# Altium footprint library Connector.PcbLib: 20 footprints (part 1 of 2)
Each footprint in its own frame and in the unit in brackets; x right, y up, seen from the top. Pads: shape width x height; smd on the part's side, far side on the other; paste and mask are expansions set on the pad; w line width, h text height; cw(c..) or ccw(c..) is an arc to the next point about the centre after c.
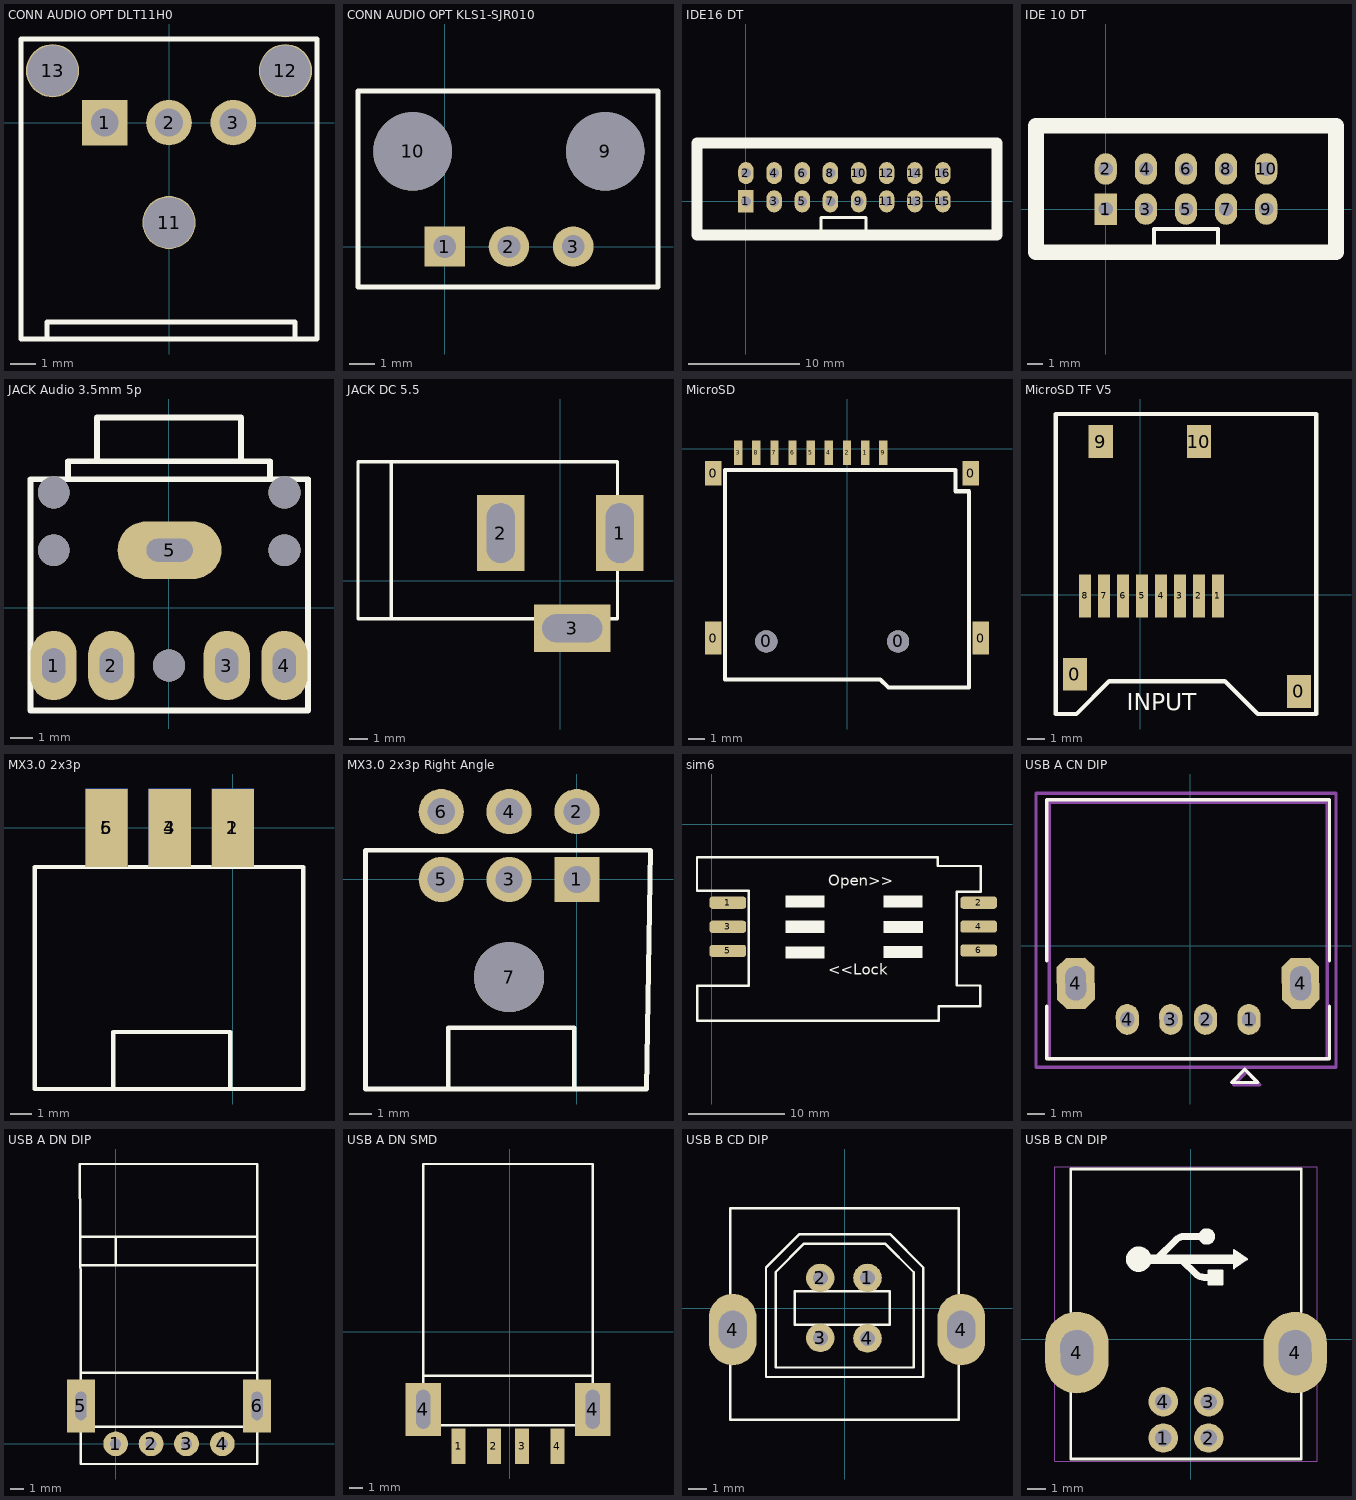
[diagram p0: the footprints below, top view; thin cyan lines are the x and y axes]

## CONN AUDIO OPT DLT11H0 [mm]
pads (6):
  rect 1.8x1.8 hole 1.1: 1(-2.54,0)
  round 1.8 hole 1.1: 2(0,0) 3(2.54,0)
  round 2.1 hole 2: 11(0,-3.95) 12(4.6,2.05) 13(-4.6,2.05)
Top Overlay:
  lines w0.203: -4.826,-8.534 -4.826,-7.874 4.978,-7.874 4.978,-8.484 ; -5.842,-8.55 5.842,-8.55 5.842,3.302 -5.842,3.302 -5.842,-8.55

## CONN AUDIO OPT KLS1-SJR010 [mm]
pads (5):
  rect 1.6x1.6 hole 0.9: 1(0,0)
  round 1.6 hole 0.9: 2(2.54,0) 3(5.08,0)
  round 3.1 hole 3.1: 9(6.35,3.76) 10(-1.27,3.76)
Top Overlay:
  lines w0.203: -3.429,-1.599 -3.429,6.148 8.433,6.148 8.433,-1.599 -3.429,-1.599

## IDE16 DT [mm]
pads (16):
  rect 1.4x2 hole 0.9: 1(0,0)
  oval 1.4x2 hole 0.9: 2(0,2.54) 3(2.54,0) 4(2.54,2.54) 5(5.08,0) 6(5.08,2.54) 7(7.62,0) 8(7.62,2.54) 9(10.16,0) 10(10.16,2.54) 11(12.7,0) 12(12.7,2.54) 13(15.24,0) 14(15.24,2.54) 15(17.78,0) 16(17.78,2.54)
Top Overlay:
  lines w0.254: 6.782,-2.718 6.782,-1.448 10.846,-1.448 10.846,-2.972
  lines w1: 8.28,-3.048 22.657,-3.048 22.657,5.27 8.28,5.27 ; 14.58,-3.048 -4.42,-3.048 -4.42,5.27 14.58,5.27

## IDE 10 DT [mm] "Connector; Header; 5x2 Position"
pads (10):
  rect 1.4x2 hole 0.9: 1(0,0)
  oval 1.4x2 hole 0.9: 2(0,2.54) 3(2.54,0) 4(2.54,2.54) 5(5.08,0) 6(5.08,2.54) 7(7.62,0) 8(7.62,2.54) 9(10.16,0) 10(10.16,2.54)
Top Overlay:
  lines w0.254: 3.048,-2.286 3.048,-1.27 6.858,-1.27 7.112,-1.27 7.112,-2.286
  lines w1: -4.42,-2.73 -4.42,5.27 14.58,5.27 14.58,-2.73 -4.42,-2.73
3D body "User Library-Tyco - 5103308-1 (Shrouded Header 2_54mm 10 Pin).step": height 9.86, standoff -3.05, extent -5.08,-3.302 15.24,5.842

## JACK Audio 3.5mm 5p [mil]
pads (5):
  oval 80x120 hole 40 slot 60 at 90 deg: 1(-200,-100) 2(-100,-100) 3(100,-100) 4(200,-100)
  oval 180x100 hole 40 slot 80 at 0 deg: 5(1,100)
via 200,100 diameter 55 hole 55
via -200,100 diameter 55 hole 55
via 0,-100 diameter 55 hole 55
via 200,200 diameter 55 hole 55
via -200,200 diameter 55 hole 55
Top Overlay:
  lines w10: -240,219 -240,-178 ; -175,224 -175,254 175,254 175,226 174,225 ; -125,255 -125,330 125,330 ; 125,329 125,256 126,255 ; 240,-178 -240,-178 ; -240,-178 -240,223 241,223 241,-178 -240,-178
3D body "SW3dPS-CONNECTOR, PHONE JACK, STEREO, 3.5 MM, SEE-PLUS ST-3536-02HG.STEP": height 394.3, standoff -137.19, extent -239,-201.56 233.44,353.56

## JACK DC 5.5 [mm] "Jac DC input"
height 5.08
pads (3):
  rect 2.54x4.064 hole 1.5 slot 3.2 at 90 deg: 1(3.175,2.54) 2(-3.175,2.54)
  rect 4.064x2.54 hole 1.5 slot 3.2 at 0 deg: 3(0.635,-2.54)
Top Overlay:
  lines w0.178: -9.017,-2.032 -9.017,6.35 ; -10.795,-2.032 -10.795,6.35 3.048,6.35 3.048,-2.032 -10.795,-2.032
3D body "SW3dPS-dc range - dc connector[4840.2201].STEP": height 11.02, standoff -3.48, extent -10.423,-2.67 3.404,6.836

## MicroSD [mm]
pads (15):
  rect 1x2 smd: 0(-8.1,-11.5) 0(8.1,-11.5)
  rect 1x1.5 smd: 0(-8.1,-1.5) 0(7.5,-1.5)
  round 1.35 hole 1.35: 0(-4.9,-11.7) 0(3.1,-11.7)
  rect 0.5x1.5 smd: 1(1.1,-0.254) 2(0,-0.254) 3(-6.6,-0.254) 4(-1.1,-0.254) 5(-2.2,-0.254) 6(-3.3,-0.254) 7(-4.4,-0.254) 8(-5.5,-0.254) 9(2.2,-0.254)
Top Overlay:
  lines w0.254: -7.4,-14 -7.4,-1.295 6.579,-1.295 6.579,-2.591 7.4,-2.591 7.4,-14.5 2.515,-14.5 2.015,-14 0,-14 -7.4,-14
3D body "User Library-Socket-MicroSD-Type1-with-SDCard.STEP": height 1.91, standoff -0.43, extent -6.95,-19.6 7.15,0.5

## MicroSD TF V5 [mm]
pads (12):
  rect 1.4x1.9 smd: 0(-3.8,-4.6) 0(9.2,-5.6) 9(-2.3,8.9) 10(3.4,8.9)
  rect 0.7x2.5 smd: 1(4.5,-0.054) 2(3.4,-0.054) 3(2.3,-0.054) 4(1.2,-0.054) 5(0.1,-0.054) 6(-1,-0.054) 7(-2.1,-0.054) 8(-3.2,-0.054)
Top Overlay:
  lines w0.254: -4.9,-6.909 -4.9,10.5 -1.4,10.5 6.4,10.5 10.2,10.5 10.2,-6.909 6.809,-6.909 4.9,-5 -1.8,-5 -3.709,-6.909 -3.979,-6.909 -4.9,-6.909
  text "INPUT" at -0.8,-6.7 h1
3D body "User Library-473521001_microSD.STEP": height 2, standoff 0.12, extent -4.35,-5.54 9.75,9.66

## MX3.0 2x3p [mm]
pads (6):
  rect 2x3.7 smd far side: 1(0,0) 3(-3,0) 5(-6,0)
  rect 2x3.7 smd: 2(0,0) 4(-3,0) 6(-6,0)
Top Overlay:
  lines w0.203: -5.69,-12.395 -5.69,-9.703 -0.127,-9.703 -0.127,-12.395 ; -9.423,-12.413 3.353,-12.413 3.353,-1.854 -9.423,-1.854 -9.423,-12.413

## MX3.0 2x3p Right Angle [mm]
pads (7):
  rect 2x2 hole 1.2: 1(0,0)
  round 2 hole 1.2: 2(0,3) 3(-3,0) 4(-3,3) 5(-6,0) 6(-6,3)
  round 3.1 hole 3.1: 7(-3,-4.32)
Top Overlay:
  lines w0.203: -5.69,-9.246 -5.69,-6.553 -0.127,-6.553 -0.127,-9.246 ; -9.349,-9.263 -9.349,1.295 3.251,1.295 3.073,-9.263 -9.349,-9.263

## sim6 [mil]
pads (6):
  rrect50% 150x50 smd: 1(65,-320) 2(1088.62,-320) 3(65,-418.43) 4(1088.62,-417.5) 5(65,-516.85) 6(1088.62,-515)
Top Overlay:
  rectangle: 300,-340 460,-290
  rectangle: 299.84,-443.31 459.84,-393.31
  rectangle: 299.84,-548.03 459.84,-498.03
  rectangle: 700,-340 860,-290
  rectangle: 700.79,-444.49 860.79,-394.49
  rectangle: 700,-545.67 860,-495.67
  lines w10: -61.02,-271.26 150,-271.26 150,-659.06 -60.63,-659.06 -60.63,-801.57 925.2,-801.57 925.2,-742.91 1095.28,-742.91 1095.28,-657.87 1000,-657.87 1000,-274.8 1097.24,-274.8 1097.24,-170.08 921.26,-170.08 921.26,-134.65 -61.02,-134.65 -61.02,-271.26
  text "Open>>" at 475,-250 h45
  text "<<Lock" at 475,-615 h45
3D body "User Library-SIM5060-6-0-26-01-A.STEP": height 102.97, standoff -26.96, extent -66.14,-806.69 1100.79,-129.53

## USB A CN DIP [mm] "THT, USB 2.0 A Connector, 4Pin, Body 15.8 x14.5mm"
height 7.12
pads (6):
  oval 1.35x1.8 hole 0.8 slot 0.9 at 90.92 deg rot 0.92: 1(3.429,-4.318) 2(0.889,-4.318) 3(-1.143,-4.318) 4(-3.683,-4.318)
  oct 2.2x3 hole 1.2 slot 2 at 90.92 deg rot 0.92: 4(-6.697,-2.206) 4(6.443,-2.206)
Top Overlay:
  lines w0.2: -8.382,-3.556 -8.382,-6.604 8.128,-6.604 8.128,-3.556 ; -8.382,-0.889 -8.382,8.509 8.128,8.509 8.128,-0.889 ; 2.413,-8.001 3.175,-7.239 3.937,-8.001 2.413,-8.001
Mechanical 13:
  lines w0.2: -8.255,-6.604 8.001,-6.604 8.001,8.382 -8.255,8.382 -8.255,-6.604
Mechanical 15:
  lines w0.2: -9.017,-7.112 8.509,-7.112 8.509,8.89 -9.017,8.89 -9.017,-7.112 ; 2.54,-8.128 3.302,-7.366 4.064,-8.128 2.54,-8.128
3D body "User Library-USB-A-01.step": height 6.97, standoff -4.18, extent -8.027,-5.461 7.773,8.239

## USB A DN DIP [mil]
pads (6):
  round 70 hole 31: 1(0,0) 2(100,0) 3(200,0) 4(301,0)
  rect 80x150 hole 31 slot 80 at 90 deg: 5(-98,107) 6(399,107)
Top Overlay:
  lines w7: -99,200 400,200 ; -99,504 400,504 ; -99,584 400,584 ; -98,48 401,48 ; 0,504 0,584 ; -101.03,790 -99,397 -99,-57 400,-57 400,790 -101.03,790
3D body "usb_a-usb_a-lp-c.stp": height 177.17, standoff -51.16, extent -97.29,-0.22 399,784.22

## USB A DN SMD [mil] "For USB SMD"
height 150
pads (6):
  rect 40x100 smd: 1(-145,-325) 2(-45,-325) 3(35,-325) 4(135,-325)
  rect 100x150 hole 40 slot 110 at 90 deg: 4(-245,-220) 4(235,-220)
Top Overlay:
  lines w7: -245,-125 235,-125 ; -245,-265 235,-265 235,475 -245,475 -245,-265
3D body "SW3dPS-USB Series A Plug.STEP": height 73.83, standoff -103.33, extent -238.44,-262.83 234,458.83

## USB B CD DIP [mil]
pads (6):
  round 60 hole 31.5 mask+2: 1(48,63.5) 2(-51,63.5) 3(-51,-62.5) 4(48,-63.5)
  oval 100x150 hole 59.06 slot 78.74 at 90 deg mask+2: 4(-235,-45) 4(245,-45)
Top Overlay:
  lines w5: -165,-234.5 125,-234.5 ; -240,-234.5 240,-234.5 240,210 -240,210 -240,185.5 -240,-144.5 -240,-234.5 ; -165,-144.5 165,-144.5 165,85.5 95,155.5 65,155.5 -95,155.5 -165,85.5 -165,-144.5 ; -145,-124.5 -145,75.5 -85,135.5 85,135.5 145,75.5 145,-124.5 -145,-124.5 ; -105,-34.5 95,-34.5 95,35.5 -105,35.5 -105,-34.5
3D body "usb_a-usb_b-top-c.stp": height 633.86, standoff -155.36, extent -290.12,-235.13 288.62,209.76

## USB B CN DIP [mil]
pads (6):
  round 64 hole 36 mask+1: 1(-59.21,-214.16) 2(39.21,-214.16) 3(39.21,-135.42) 4(-59.21,-135.42)
  oval 137.8x177.17 hole 70.87 slot 98.43 at 91 deg mask+0: 4(-247.01,-28.72) 4(227.01,-28.72)
Top Overlay:
  circle w35: c-112.57,174 r10
  circle w20: c35.06,223.21 r7.87
  region: 121.68,174 94.12,154.31 94.12,193.69
  region: 68.53,119.87 39,119.87 39,149.39 68.53,149.39
  lines w5: 39,119.87 39,149.39 68.53,149.39 68.53,119.87 39,119.87 ; 94.12,154.31 121.68,174 94.12,193.69 94.12,154.31
  lines w6: -260,-116.14 -260,-260 240,-260 240,-116.14 ; -260,60 -260,370 240,370 240,60
  lines w15: -71.35,176.46 -31.98,215.83 cw(c-14.15,198) -14.15,223.21 35.06,223.21 ; -18.2,171.54 11.33,142.01 ccw(c29.16,159.84) 29.16,134.63 39,134.63
  lines w20: -92.89,174 94.12,174
Mechanical 15:
  lines w2: -295,-265 -295,375 275,375 275,-265 -295,-265
3D body "c-0292304-01-b-3d.stp": height 452.76, standoff -154.56, extent -293.24,-242.11 273.24,376